# Altium schematic symbol library eic_lib.SchLib: 17 symbols
Pins are listed as number, name and electrical type; pins without a type are passive.

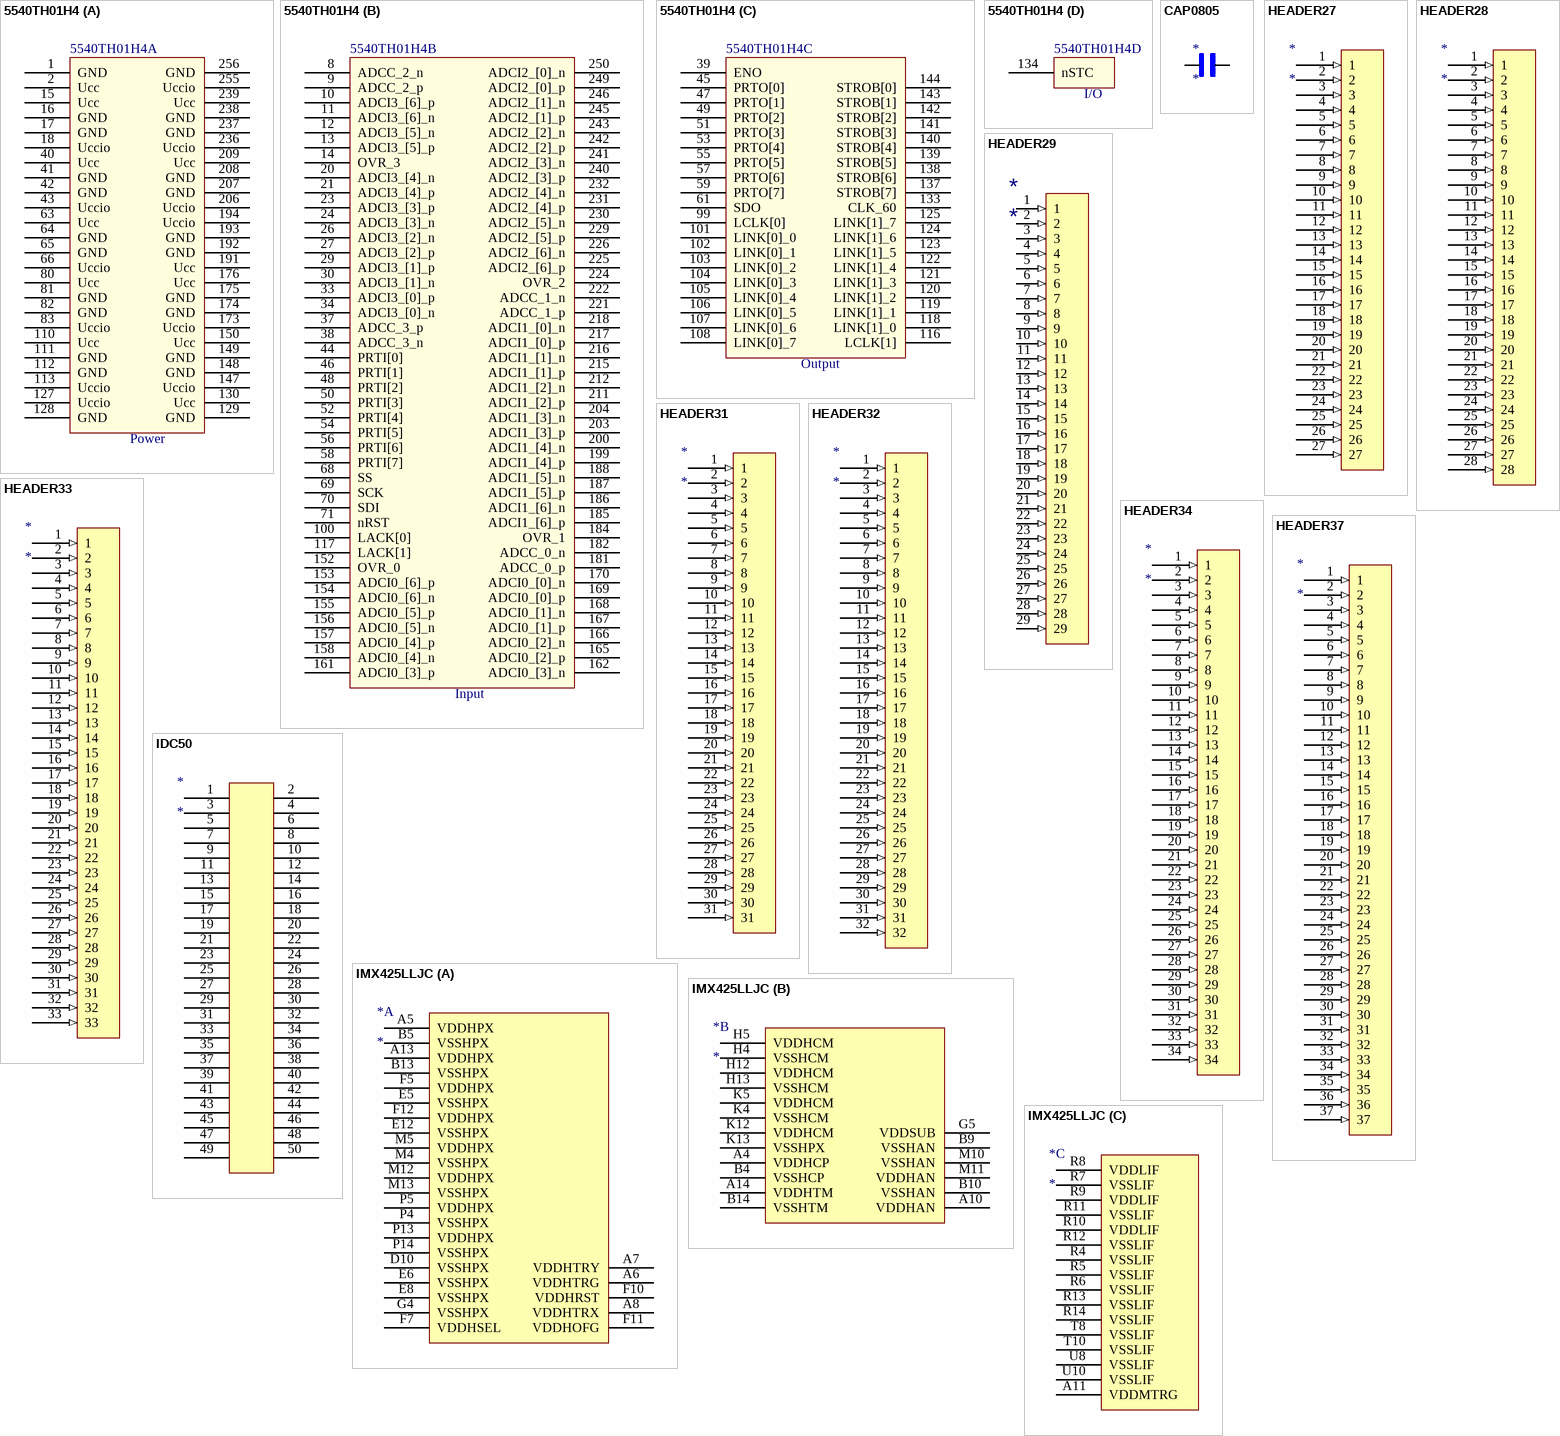
[diagram p0: symbols 5540TH01H4 to IMX425LLJC]

## 5540TH01H4
designator 5540TH01H4
footprint 5540TH01H4
part A pins: 1 GND (power) "общие выводы ядра (GND)", 2 Ucc (power) "питающие выводы ядра  (Uсс)", 15 Ucc (power) "питающие выводы ядра  (Uсс)", 16 GND (power) "общие выводы ядра (GND)", 17 GND (power) "общие выводы портов ввода вывода (GNDio)", 18 Uccio (power) "питающие выводы портов ввода вывода  (Uссio)", 40 Ucc (power) "питающие выводы ядра  (Uсс)", 41 GND (power) "общие выводы ядра (GND)", 42 GND (power) "общие выводы портов ввода вывода (GNDio)", 43 Uccio (power) "питающие выводы портов ввода вывода  (Uссio)", 63 Ucc (power) "питающие выводы ядра  (Uсс)", 64 GND (power) "общие выводы ядра (GND)", 65 GND (power) "общие выводы портов ввода вывода (GNDio)", 66 Uccio (power) "питающие выводы портов ввода вывода  (Uссio)", 80 Ucc (power) "питающие выводы ядра  (Uсс)", 81 GND (power) "общие выводы ядра (GND)", 82 GND (power) "общие выводы портов ввода вывода (GNDio)", 83 Uccio (power) "питающие выводы портов ввода вывода  (Uссio)", 110 Ucc (power) "питающие выводы ядра  (Uсс)", 111 GND (power) "общие выводы ядра (GND)", 112 GND (power) "общие выводы портов ввода вывода (GNDio)", 113 Uccio (power) "питающие выводы портов ввода вывода  (Uссio)", 127 Uccio (power) "питающие выводы портов ввода вывода  (Uссio)", 128 GND (power) "общие выводы портов ввода вывода (GNDio)", 129 GND (power) "общие выводы ядра (GND)", 130 Ucc (power) "питающие выводы ядра  (Uсс)", 147 Uccio (power) "питающие выводы портов ввода вывода  (Uссio)", 148 GND (power) "общие выводы портов ввода вывода (GNDio)", 149 GND (power) "общие выводы ядра (GND)", 150 Ucc (power) "питающие выводы ядра  (Uсс)", 173 Uccio (power) "питающие выводы портов ввода вывода  (Uссio)", 174 GND (power) "общие выводы портов ввода вывода (GNDio)", 175 GND (power) "общие выводы ядра (GND)", 176 Ucc (power) "питающие выводы ядра  (Uсс)", 191 Ucc (power) "питающие выводы ядра  (Uсс)", 192 GND (power) "общие выводы ядра (GND)", 193 GND (power) "общие выводы портов ввода вывода (GNDio)", 194 Uccio (power) "питающие выводы портов ввода вывода  (Uссio)", 206 Uccio (power) "питающие выводы портов ввода вывода  (Uссio)", 207 GND (power) "общие выводы портов ввода вывода (GNDio)", 208 GND (power) "общие выводы ядра (GND)", 209 Ucc (power) "питающие выводы ядра  (Uсс)", 236 Uccio (power) "питающие выводы портов ввода вывода  (Uссio)", 237 GND (power) "общие выводы портов ввода вывода (GNDio)", 238 GND (power) "общие выводы ядра (GND)", 239 Ucc (power) "питающие выводы ядра  (Uсс)", 255 Uccio (power) "питающие выводы портов ввода вывода  (Uссio)", 256 GND (power) "общие выводы портов ввода вывода (GNDio)"
part B pins: 8 ADCC_2_n "Отрицательный вход стробирования данных АЦП_2", 9 ADCC_2_p "Положительный вход стробирования данных АЦП_2", 10 ADCI3_[6]_p "Положительный вход данных 6 разряда АЦП_3-", 11 ADCI3_[6]_n "Отрицательный вход данных 6 разряда АЦП_3", 12 ADCI3_[5]_n "Отрицательный вход данных 5 разряда АЦП_3", 13 ADCI3_[5]_p "Положительный вход данных 5 разряда АЦП_3", 14 OVR_3 "Вход переполнения АЦП_3", 20 ADCI3_[4]_n "Положительный вход данных 4 разряда АЦП_3", 21 ADCI3_[4]_p "Отрицательный вход данных 4 разряда АЦП_3", 23 ADCI3_[3]_p "Положительный вход данных 3 разряда АЦП_3", 24 ADCI3_[3]_n "Отрицательный вход данных 3 разряда АЦП_3", 26 ADCI3_[2]_n "Положительный вход данных 2 разряда АЦП_3", 27 ADCI3_[2]_p "Отрицательный вход данных 2 разряда АЦП_3", 29 ADCI3_[1]_p "Положительный вход данных 1 разряда АЦП_3", 30 ADCI3_[1]_n "Отрицательный вход данных 1 разряда АЦП_3", 33 ADCI3_[0]_p "Положительный вход данных 0 разряда АЦП_3", 34 ADCI3_[0]_n "Отрицательный вход данных 0 разряда АЦП_3", 37 ADCC_3_p "Положительный вход стробирования данных АЦП_3", 38 ADCC_3_n "Отрицательный вход стробирования данных АЦП_3", 44 PRTI[0] "Вход шины данных 0 разряда пользовательского назначения", 46 PRTI[1] "Вход шины данных 1 разряда пользовательского назначения", 48 PRTI[2] "Вход шины данных 2 разряда пользовательского назначения", 50 PRTI[3] "Вход шины данных 3 разряда пользовательского назначения", 52 PRTI[4] "Вход шины данных 4 разряда пользовательского назначения", 54 PRTI[5] "Вход шины данных 5 разряда пользовательского назначения", 56 PRTI[6] "Вход шины данных 6 разряда пользовательского назначения", 58 PRTI[7] "Вход шины данных 7 разряда пользовательского назначения", 68 SS "Выбор кристалла", 69 SCK "Строб данных", 70 SDI "Вход данных", 71 nRST "Начальный сброс", 100 LACK[0] "Подтверждение/Готовность по LINK_0", 117 LACK[1] "Подтверждение/Готовность по LINK_1", 152 OVR_0 "Вход переполнения АЦП_0", 153 ADCI0_[6]_p "Положительный вход данных 6 разряда АЦП_0", 154 ADCI0_[6]_n "Отрицательный вход данных 6 разряда АЦП_0", 155 ADCI0_[5]_p "Положительный вход данных 5 разряда АЦП_0", 156 ADCI0_[5]_n "Отрицательный вход данных 5 разряда АЦП_0", 157 ADCI0_[4]_p "Положительный вход данных 4 разряда АЦП_0", 158 ADCI0_[4]_n "Отрицательный вход данных 4 разряда АЦП_0", 161 ADCI0_[3]_p "Положительный вход данных 3 разряда АЦП_0", 162 ADCI0_[3]_n "Отрицательный вход данных 3 разряда АЦП_0", 165 ADCI0_[2]_p "Положительный вход данных 2 разряда АЦП_0", 166 ADCI0_[2]_n "Отрицательный вход данных 2 разряда АЦП_0", 167 ADCI0_[1]_p "Положительный вход данных 1 разряда АЦП_0", 168 ADCI0_[1]_n "Отрицательный вход данных 1 разряда АЦП_0", 169 ADCI0_[0]_p "Положительный вход данных 0 разряда АЦП_0", 170 ADCI0_[0]_n "Отрицательный вход данных 0 разряда АЦП_0", 181 ADCC_0_p "Положительный вход стробирования данных АЦП_0", 182 ADCC_0_n "Отрицательный вход стробирования данных АЦП_0", 184 OVR_1 "Вход переполнения АЦП_1", 185 ADCI1_[6]_p "Положительный вход данных 6 разряда АЦП_1", 186 ADCI1_[6]_n "Отрицательный вход данных 6 разряда АЦП_1", 187 ADCI1_[5]_p "Положительный вход данных 5 разряда АЦП_1", 188 ADCI1_[5]_n "Отрицательный вход данных 5 разряда АЦП_1", 199 ADCI1_[4]_p "Положительный вход данных 4 разряда АЦП_1", 200 ADCI1_[4]_n "Отрицательный вход данных 4 разряда АЦП_1", 203 ADCI1_[3]_p "Положительный вход данных 3 разряда АЦП_1", 204 ADCI1_[3]_n "Отрицательный вход данных 3 разряда АЦП_1", 211 ADCI1_[2]_p "Положительный вход данных 2 разряда АЦП_1", 212 ADCI1_[2]_n "Отрицательный вход данных 2 разряда АЦП_1", 215 ADCI1_[1]_p "Положительный вход данных 1 разряда АЦП_1", 216 ADCI1_[1]_n "Отрицательный вход данных 1 разряда АЦП_1", 217 ADCI1_[0]_p "Положительный вход данных 0 разряда АЦП_1", 218 ADCI1_[0]_n "Отрицательный вход данных 0 разряда АЦП_1", 221 ADCC_1_p "Положительный вход стробирования данных АЦП_1", 222 ADCC_1_n "Отрицательный вход стробирования данных АЦП_1", 224 OVR_2 "Вход переполнения АЦП_2", 225 ADCI2_[6]_p "Положительный вход данных 6 разряда АЦП_2", 226 ADCI2_[6]_n "Отрицательный вход данных 6 разряда АЦП_2", 229 ADCI2_[5]_p "Положительный вход данных 5 разряда АЦП_2", 230 ADCI2_[5]_n "Отрицательный вход данных 5 разряда АЦП_2", 231 ADCI2_[4]_p "Положительный вход данных 4 разряда АЦП_2", 232 ADCI2_[4]_n "Отрицательный вход данных 4 разряда АЦП_2", 240 ADCI2_[3]_p "Положительный вход данных 3 разряда АЦП_2", 241 ADCI2_[3]_n "Отрицательный вход данных 3 разряда АЦП_2", 242 ADCI2_[2]_p "Положительный вход данных 2 разряда АЦП_2", 243 ADCI2_[2]_n "Отрицательный вход данных 2 разряда АЦП_2", 245 ADCI2_[1]_p "Положительный вход данных 1 разряда АЦП_2", 246 ADCI2_[1]_n "Отрицательный вход данных 1 разряда АЦП_2", 249 ADCI2_[0]_p "Положительный вход данных 0 разряда АЦП_2", 250 ADCI2_[0]_n "Отрицательный вход данных 0 разряда АЦП_2"
part C pins: 39 ENO "Готовность данных", 45 PRTO[0] "Выход шины данных 0 разряда пользовательского назначения", 47 PRTO[1] "Выход шины данных 1 разряда пользовательского назначения", 49 PRTO[2] "Выход шины данных 2 разряда пользовательского назначения", 51 PRTO[3] "Выход шины данных 3 разряда пользовательского назначения", 53 PRTO[4] "Выход шины данных 4 разряда пользовательского назначения", 55 PRTO[5] "Выход шины данных 5 разряда пользовательского назначения", 57 PRTO[6] "Выход шины данных 6 разряда пользовательского назначения", 59 PRTO[7] "Выход шины данных 7 разряда пользовательского назначения", 61 SDO "Выход данных", 99 LCLK[0] "Синхронизация по LINK_0", 101 LINK[0]_0 "Выход шины данных 0 разряда LINK_0", 102 LINK[0]_1 "Выход шины данных 1 разряда LINK_0", 103 LINK[0]_2 "Выход шины данных 2 разряда LINK_0", 104 LINK[0]_3 "Выход шины данных 3 разряда LINK_0", 105 LINK[0]_4 "Выход шины данных 4 разряда LINK_0", 106 LINK[0]_5 "Выход шины данных 5 разряда LINK_0", 107 LINK[0]_6 "Выход шины данных 6 разряда LINK_0", 108 LINK[0]_7 "Выход шины данных 7 разряда LINK_0", 116 LCLK[1] "Синхронизация по LINK_1", 118 LINK[1]_0 "Выход шины данных 0 разряда LINK_1", 119 LINK[1]_1 "Выход шины данных 1 разряда LINK_1", 120 LINK[1]_2 "Выход шины данных 2 разряда LINK_1", 121 LINK[1]_3 "Выход шины данных 3 разряда LINK_1", 122 LINK[1]_4 "Выход шины данных 4 разряда LINK_1", 123 LINK[1]_5 "Выход шины данных 5 разряда LINK_1", 124 LINK[1]_6 "Выход шины данных 6 разряда LINK_1", 125 LINK[1]_7 "Выход шины данных 7 разряда LINK_1", 133 CLK_60 "Выход тактовой частоты 60 МГц", 137 STROB[7] "Строб управления 7", 138 STROB[6] "Строб управления 6", 139 STROB[5] "Строб управления 5", 140 STROB[4] "Строб управления 4", 141 STROB[3] "Строб управления 3", 142 STROB[2] "Строб управления 2", 143 STROB[1] "Строб управления 1", 144 STROB[0] "Строб управления 0"
part D pins: 134 nSTC "Вход/Выход синхронизации"
part A text: Power
part B text: Input
part C text: Output
part D text: I/O

## CAP0805
designator *
footprint CAP0805
pins: 1, 2

## HEADER27
designator *
footprint HEADER27
pins: 1 (in), 2 (in), 3 (in), 4 (in), 5 (in), 6 (in), 7 (in), 8 (in), 9 (in), 10 (in), 11 (in), 12 (in), 13 (in), 14 (in), 15 (in), 16 (in), 17 (in), 18 (in), 19 (in), 20 (in), 21 (in), 22 (in), 23 (in), 24 (in), 25 (in), 26 (in), 27 (in)

## HEADER28
designator *
footprint HEADER28
pins: 1 (in), 2 (in), 3 (in), 4 (in), 5 (in), 6 (in), 7 (in), 8 (in), 9 (in), 10 (in), 11 (in), 12 (in), 13 (in), 14 (in), 15 (in), 16 (in), 17 (in), 18 (in), 19 (in), 20 (in), 21 (in), 22 (in), 23 (in), 24 (in), 25 (in), 26 (in), 27 (in), 28 (in)

## HEADER29
designator *
footprint HEADER29
pins: 1 (in), 2 (in), 3 (in), 4 (in), 5 (in), 6 (in), 7 (in), 8 (in), 9 (in), 10 (in), 11 (in), 12 (in), 13 (in), 14 (in), 15 (in), 16 (in), 17 (in), 18 (in), 19 (in), 20 (in), 21 (in), 22 (in), 23 (in), 24 (in), 25 (in), 26 (in), 27 (in), 28 (in), 29 (in)

## HEADER31
designator *
footprint HEADER31
pins: 1 (in), 2 (in), 3 (in), 4 (in), 5 (in), 6 (in), 7 (in), 8 (in), 9 (in), 10 (in), 11 (in), 12 (in), 13 (in), 14 (in), 15 (in), 16 (in), 17 (in), 18 (in), 19 (in), 20 (in), 21 (in), 22 (in), 23 (in), 24 (in), 25 (in), 26 (in), 27 (in), 28 (in), 29 (in), 30 (in), 31 (in)

## HEADER32
designator *
footprint HEADER32
pins: 1 (in), 2 (in), 3 (in), 4 (in), 5 (in), 6 (in), 7 (in), 8 (in), 9 (in), 10 (in), 11 (in), 12 (in), 13 (in), 14 (in), 15 (in), 16 (in), 17 (in), 18 (in), 19 (in), 20 (in), 21 (in), 22 (in), 23 (in), 24 (in), 25 (in), 26 (in), 27 (in), 28 (in), 29 (in), 30 (in), 31 (in), 32 (in)

## HEADER33
designator *
footprint HEADER33
pins: 1 (in), 2 (in), 3 (in), 4 (in), 5 (in), 6 (in), 7 (in), 8 (in), 9 (in), 10 (in), 11 (in), 12 (in), 13 (in), 14 (in), 15 (in), 16 (in), 17 (in), 18 (in), 19 (in), 20 (in), 21 (in), 22 (in), 23 (in), 24 (in), 25 (in), 26 (in), 27 (in), 28 (in), 29 (in), 30 (in), 31 (in), 32 (in), 33 (in)

## HEADER34
designator *
footprint HEADER34
pins: 1 (in), 2 (in), 3 (in), 4 (in), 5 (in), 6 (in), 7 (in), 8 (in), 9 (in), 10 (in), 11 (in), 12 (in), 13 (in), 14 (in), 15 (in), 16 (in), 17 (in), 18 (in), 19 (in), 20 (in), 21 (in), 22 (in), 23 (in), 24 (in), 25 (in), 26 (in), 27 (in), 28 (in), 29 (in), 30 (in), 31 (in), 32 (in), 33 (in), 34 (in)

## HEADER37
designator *
footprint Header37
pins: 1 (in), 2 (in), 3 (in), 4 (in), 5 (in), 6 (in), 7 (in), 8 (in), 9 (in), 10 (in), 11 (in), 12 (in), 13 (in), 14 (in), 15 (in), 16 (in), 17 (in), 18 (in), 19 (in), 20 (in), 21 (in), 22 (in), 23 (in), 24 (in), 25 (in), 26 (in), 27 (in), 28 (in), 29 (in), 30 (in), 31 (in), 32 (in), 33 (in), 34 (in), 35 (in), 36 (in), 37 (in)

## IDC50
designator *
footprint IDC50
pins: 1, 2, 3, 4, 5, 6, 7, 8, 9, 10, 11, 12, 13, 14, 15, 16, 17, 18, 19, 20, 21, 22, 23, 24, 25, 26, 27, 28, 29, 30, 31, 32, 33, 34, 35, 36, 37, 38, 39, 40, 41, 42, 43, 44, 45, 46, 47, 48, 49, 50

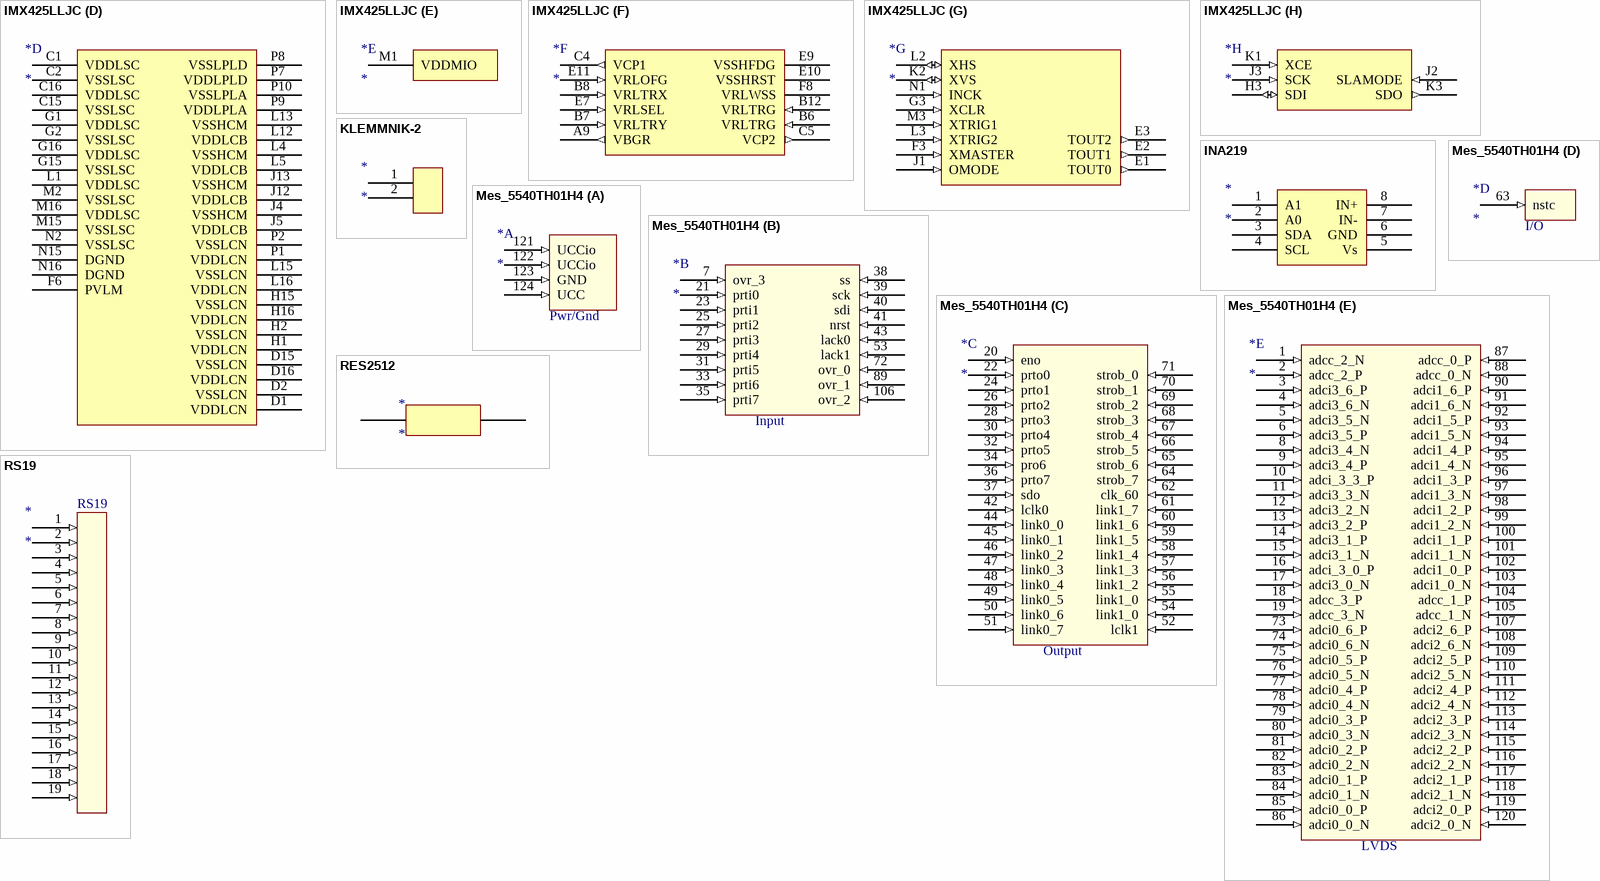
[diagram p1: symbols IMX425LLJC to RS19]

## IMX425LLJC
designator *
footprint IMX425LLJC (LGA, 81-Leads, Body 11,00x11,00mmx3,50mm, Pitch 1,00mm)
part A pins: A5 VDDHPX (power), A6 VDDHTRG (power), A7 VDDHTRY (power), A8 VDDHTRX (power), A13 VDDHPX (power), B5 VSSHPX (power), B13 VSSHPX (power), D10 VSSHPX (power), E5 VSSHPX (power), E6 VSSHPX (power), E8 VSSHPX (power), E12 VSSHPX (power), F5 VDDHPX (power), F7 VDDHSEL (power), F10 VDDHRST (power), F11 VDDHOFG (power), F12 VDDHPX (power), G4 VSSHPX (power), M4 VSSHPX (power), M5 VDDHPX (power), M12 VDDHPX (power), M13 VSSHPX (power), P4 VSSHPX (power), P5 VDDHPX (power), P13 VDDHPX (power), P14 VSSHPX (power)
part B pins: A4 VDDHCP (power), A10 VDDHAN (power), A14 VDDHTM (power), B4 VSSHCP (power), B9 VSSHAN (power), B10 VSSHAN (power), B14 VSSHTM (power), G5 VDDSUB (power), H4 VSSHCM (power), H5 VDDHCM (power), H12 VDDHCM (power), H13 VSSHCM (power), K4 VSSHCM (power), K5 VDDHCM (power), K12 VDDHCM (power), K13 VSSHPX (power), M10 VSSHAN (power), M11 VDDHAN (power)
part C pins: A11 VDDMTRG (power), R4 VSSLIF (power), R5 VSSLIF (power), R6 VSSLIF (power), R7 VSSLIF (power), R8 VDDLIF (power), R9 VDDLIF (power), R10 VDDLIF (power), R11 VSSLIF (power), R12 VSSLIF (power), R13 VSSLIF (power), R14 VSSLIF (power), T8 VSSLIF (power), T10 VSSLIF (power), U8 VSSLIF (power), U10 VSSLIF (power)
part D pins: C1 VDDLSC (power), C2 VSSLSC (power), C15 VSSLSC (power), C16 VDDLSC (power), D1 VDDLCN (power), D2 VSSLCN (power), D15 VSSLCN (power), D16 VDDLCN (power), F6 PVLM (power), G1 VDDLSC (power), G2 VSSLSC (power), G15 VSSLSC (power), G16 VDDLSC (power), H1 VDDLCN (power), H2 VSSLCN (power), H15 VSSLCN (power), H16 VDDLCN (power), J4 VSSHCM (power), J5 VDDLCB (power), J12 VDDLCB (power), J13 VSSHCM (power), L1 VDDLSC (power), L4 VSSHCM (power), L5 VDDLCB (power), L12 VDDLCB (power), L13 VSSHCM (power), L15 VSSLCN (power), L16 VDDLCN (power), M2 VSSLSC (power), M15 VSSLSC (power), M16 VDDLSC (power), N2 VSSLSC (power), N15 DGND (power), N16 DGND (power), P1 VDDLCN (power), P2 VSSLCN (power), P7 VDDLPLD (power), P8 VSSLPLD (power), P9 VDDLPLA (power), P10 VSSLPLA (power)
part E pins: M1 VDDMIO (power)
part F pins: A9 VBGR (out), B6 VRLTRG (in), B7 VRLTRY (in), B8 VRLTRX (in), B12 VRLTRG (in), C4 VCP1 (out), C5 VCP2 (out), E7 VRLSEL (in), E9 VSSHFDG (power), E10 VSSHRST (power), E11 VRLOFG (in), F8 VRLWSS (power)
part G pins: E1 TOUT0 (out), E2 TOUT1 (out), E3 TOUT2 (out), F3 XMASTER (in), G3 XCLR (in), J1 OMODE (in), K2 XVS (io), L2 XHS (io), L3 XTRIG2 (in), M3 XTRIG1 (in), N1 INCK (in)
part H pins: H3 SDI (io), J2 SLAMODE (in), J3 SCK (in), K1 XCE (in), K3 SDO (out)

## INA219
designator *
footprint INA219 (SOIC, 8-Leads, Body 4,88x3,91mm, Pitch 1,27mm, IPC Medium Density)
pins: 1 A1, 2 A0, 3 SDA, 4 SCL, 5 Vs, 6 GND, 7 IN-, 8 IN+

## KLEMMNIK-2
designator *
footprint KLEMMNIK-2
pins: 1, 2

## Mes_5540TH01H4
designator *
footprint Mes_5540TH01H4
part A pins: 121 UCCio (in), 122 UCCio (in), 123 GND (in), 124 UCC (in)
part B pins: 7 ovr_3 (in), 21 prti0 (in), 23 prti1 (in), 25 prti2 (in), 27 prti3 (in), 29 prti4 (in), 31 prti5 (in), 33 prti6 (in), 35 prti7 (in), 38 ss (in), 39 sck (in), 40 sdi (in), 41 nrst (in), 43 lack0 (in), 53 lack1 (in), 72 ovr_0 (in), 89 ovr_1 (in), 106 ovr_2 (in)
part C pins: 20 eno (in), 22 prto0 (in), 24 prto1 (in), 26 prto2 (in), 28 prto3 (in), 30 prto4 (in), 32 prto5 (in), 34 pro6 (in), 36 prto7 (in), 37 sdo (in), 42 lclk0 (in), 44 link0_0 (in), 45 link0_1 (in), 46 link0_2 (in), 47 link0_3 (in), 48 link0_4 (in), 49 link0_5 (in), 50 link0_6 (in), 51 link0_7 (in), 52 lclk1 (in), 54 link1_0 (in), 55 link1_0 (in), 56 link1_2 (in), 57 link1_3 (in), 58 link1_4 (in), 59 link1_5 (in), 60 link1_6 (in), 61 link1_7 (in), 62 clk_60 (in), 64 strob_7 (in), 65 strob_6 (in), 66 strob_5 (in), 67 strob_4 (in), 68 strob_3 (in), 69 strob_2 (in), 70 strob_1 (in), 71 strob_0 (in)
part D pins: 63 nstc (in)
part E pins: 1 adcc_2_N (in), 2 adcc_2_P (in), 3 adci3_6_P (in), 4 adci3_6_N (in), 5 adci3_5_N (in), 6 adci3_5_P (in), 8 adci3_4_N (in), 9 adci3_4_P (in), 10 adci_3_3_P (in), 11 adci3_3_N (in), 12 adci3_2_N (in), 13 adci3_2_P (in), 14 adci3_1_P (in), 15 adci3_1_N (in), 16 adci_3_0_P (in), 17 adci3_0_N (in), 18 adcc_3_P (in), 19 adcc_3_N (in), 73 adci0_6_P (in), 74 adci0_6_N (in), 75 adci0_5_P (in), 76 adci0_5_N (in), 77 adci0_4_P (in), 78 adci0_4_N (in), 79 adci0_3_P (in), 80 adci0_3_N (in), 81 adci0_2_P (in), 82 adci0_2_N (in), 83 adci0_1_P (in), 84 adci0_1_N (in), 85 adci0_0_P (in), 86 adci0_0_N (in), 87 adcc_0_P (in), 88 adcc_0_N (in), 90 adci1_6_P (in), 91 adci1_6_N (in), 92 adci1_5_P (in), 93 adci1_5_N (in), 94 adci1_4_P (in), 95 adci1_4_N (in), 96 adci1_3_P (in), 97 adci1_3_N (in), 98 adci1_2_P (in), 99 adci1_2_N (in), 100 adci1_1_P (in), 101 adci1_1_N (in), 102 adci1_0_P (in), 103 adci1_0_N (in), 104 adcc_1_P (in), 105 adcc_1_N (in), 107 adci2_6_P (in), 108 adci2_6_N (in), 109 adci2_5_P (in), 110 adci2_5_N (in), 111 adci2_4_P (in), 112 adci2_4_N (in), 113 adci2_3_P (in), 114 adci2_3_N (in), 115 adci2_2_P (in), 116 adci2_2_N (in), 117 adci2_1_P (in), 118 adci2_1_N (in), 119 adci2_0_P (in), 120 adci2_0_N (in)
part A text: Pwr/Gnd
part B text: Input
part C text: Output
part D text: I/O
part E text: LVDS

## RES2512
designator *
footprint RES2512
pins: 0, 1

## RS19
designator *
footprint RS19
pins: 1 (in), 2 (in), 3 (in), 4 (in), 5 (in), 6 (in), 7 (in), 8 (in), 9 (in), 10 (in), 11 (in), 12 (in), 13 (in), 14 (in), 15 (in), 16 (in), 17 (in), 18 (in), 19 (in)